# Altium schematic symbol library Kingbright.SchLib: 1 symbol
Pins are listed as number, name and electrical type; pins without a type are passive.

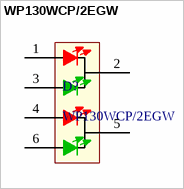
[diagram p0: symbol WP130WCP/2EGW]

## WP130WCP/2EGW
designator D?
Supplier Part Number 1: 754-1205-ND
footprint WP130WCP/2EGW (Footprint not found)
pins: 1 AR1, 2 K1, 3 AG1, 4 AR2, 5 K2, 6 AG2